# EAGLE library part KEYPAD-12 (library greg)
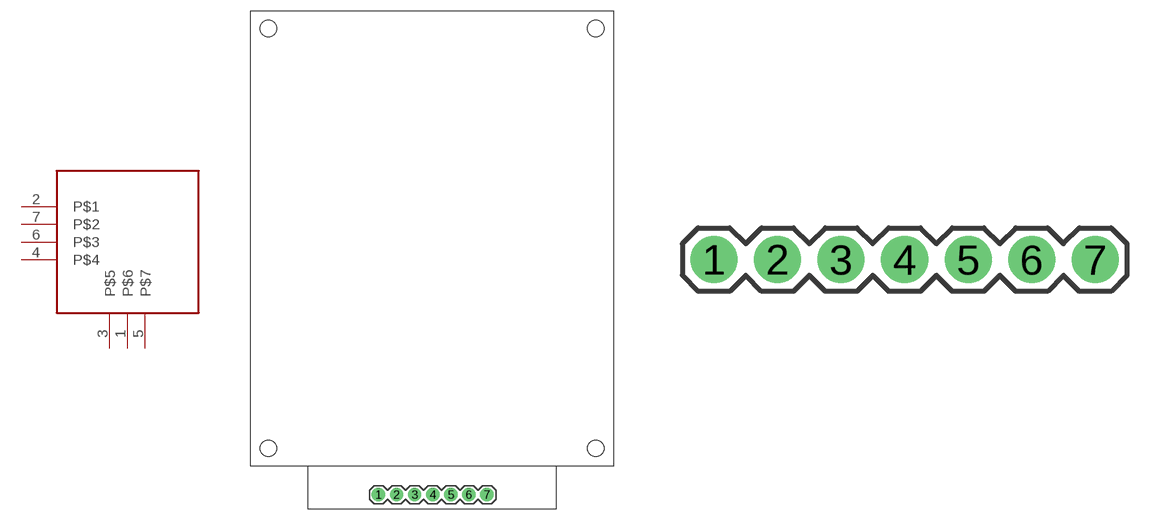
[diagram p10: symbol with the pads of KEYPAD-12; footprints KEYPAD-12, M07]

Designator prefix -

## KEYPAD-12WITH-LAYOUT  [KEYPAD-12]
1  P$6
2  P$1
3  P$5
4  P$4
5  P$7
6  P$3
7  P$2

## KEYPAD-12  [M07]
Pads as for KEYPAD-12

## Footprint KEYPAD-12 (pad centres in mm)
drill 1.016 pad 1.88: 1 -7.54,-36; 2 -5,-36; 3 -2.46,-36; 4 0.08,-36; 5 2.62,-36; 6 5.16,-36; 7 7.7,-36
hole 2.3 at -23,-29.5
hole 2.3 at 23,-29.5
hole 2.3 at -23,29.5
hole 2.3 at 23,29.5

## Footprint M07 (pad centres in mm)
drill 1.016 pad 1.88: 1 -7.62,0; 2 -5.08,0; 3 -2.54,0; 4 0,0; 5 2.54,0; 6 5.08,0; 7 7.62,0